# EAGLE library part HIP4082IPZ (library Intersil_By_element14_Batch_1)
80V, 1.25A Peak Current H-Bridge
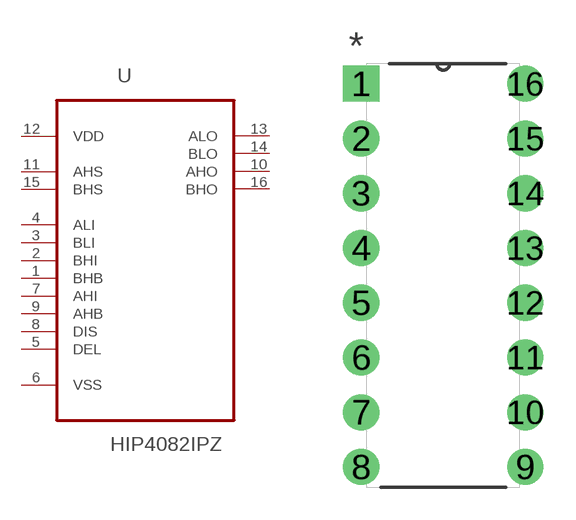
[diagram p157: symbol with the pads of DIP254P762X533-16; footprint DIP254P762X533-16]

Designator prefix U

## HIP4082IPZ (MPN: HIP4082IPZ; OC_FARNELL: 9664149; OC_NEWARK: 61J5962; PACKAGE: PDIP-16; SUPPLIER: INTERSIL)  [DIP254P762X533-16]
1  BHB  pwr
2  BHI  in
3  BLI  in
4  ALI  in
5  DEL  pas
6  VSS  pwr
7  AHI  in
8  DIS  in
9  AHB  in
10  AHO  out
11  AHS  in
12  VDD  pwr
13  ALO  out
14  BLO  out
15  BHS  in
16  BHO  out

## Footprint DIP254P762X533-16 (pad centres in mm)
drill 1.118 square: 1 -7.62,17.78
drill 1.118: 2 -7.62,15.24; 3 -7.62,12.7; 4 -7.62,10.16; 5 -7.62,7.62; 6 -7.62,5.08; 7 -7.62,2.54; 8 -7.62,0; 9 0,0; 10 0,2.54; 11 0,5.08; 12 0,7.62; 13 0,10.16; 14 0,12.7; 15 0,15.24; 16 0,17.78